# Altium footprint library 2019-10-20_20-01-06.PcbLib: 3 footprints
Each footprint in its own frame and in the unit in brackets; x right, y up, seen from the top. Pads: shape width x height; smd on the part's side, far side on the other; paste and mask are expansions set on the pad; w line width, h text height; cw(c..) or ccw(c..) is an arc to the next point about the centre after c.
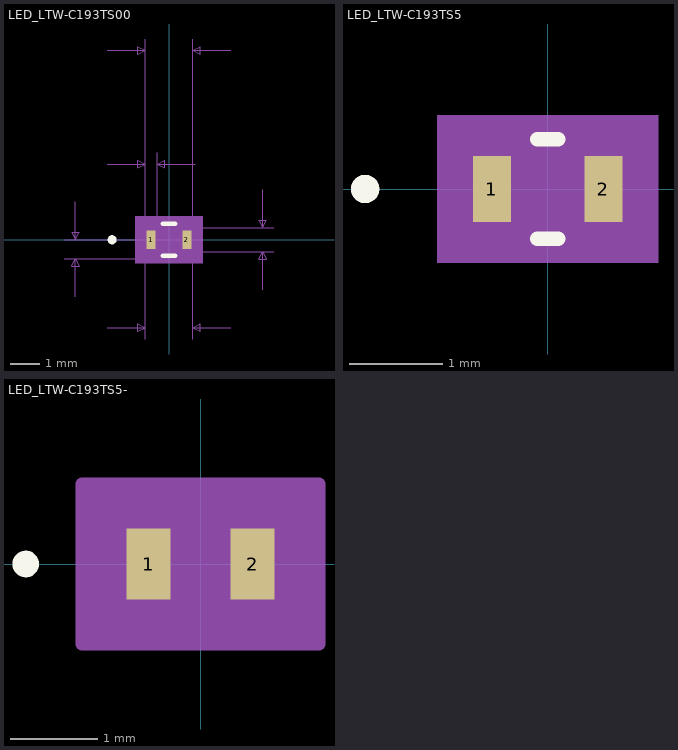
[diagram p0: the footprints below, top view; thin cyan lines are the x and y axes]

## LED_LTW-C193TS00 [mil]
pads (2):
  rect 12x24 smd paste+0 mask+0: 1(-23.5,0) 2(23.5,0)
Top Overlay:
  circle w6: c-75,0 r3
  lines w6: -7.98,-21 7.98,-21 ; -7.98,21 7.98,21
Mechanical 5:
  region: 44.5,-31 -44.5,-31 -44.5,31 44.5,31
Mechanical 7:
  lines w1: -138.5,-25 -23.5,-25 ; -138.5,0 -23.5,0 ; -123.5,-75 -123.5,-25 ; -123.5,50 -123.5,0 ; -81.5,-116 -31.5,-116 ; -81.5,100 -31.5,100 ; -81.5,250 -31.5,250 ; -31.5,-131 -31.5,-16 ; -31.5,115 -31.5,0 -31.5,265 ; -15.5,0 -15.5,115 ; 31.5,-131 31.5,-16 138.5,-16 ; 31.5,0 31.5,265 ; 31.5,16 138.5,16 ; 34.5,100 -15.5,100 ; 81.5,-116 31.5,-116 ; 81.5,250 31.5,250 ; 123.5,-66 123.5,-16 ; 123.5,66 123.5,16 ; -123.5,-25 -118.5,-35 -128.5,-35 -123.5,-25 ; -123.5,0 -118.5,10 -128.5,10 -123.5,0 ; -31.5,-116 -41.5,-121 -41.5,-111 -31.5,-116 ; -31.5,100 -41.5,95 -41.5,105 -31.5,100 ; -31.5,250 -41.5,245 -41.5,255 -31.5,250 ; -15.5,100 -5.5,95 -5.5,105 -15.5,100 ; 31.5,-116 41.5,-121 41.5,-111 31.5,-116 ; 31.5,250 41.5,245 41.5,255 31.5,250 ; 123.5,-16 128.5,-26 118.5,-26 123.5,-16 ; 123.5,16 128.5,26 118.5,26 123.5,16
  text "0.063in/1.6mm" at -81.25,-161 h25
  text "0.032in/0.813mm" at 143.5,-12.5 h25
  text "0.025in/0.635mm" at -331,-25 h25
  text "0.016in/0.406mm" at -117.25,120 h25
  text "0.063in/1.6mm" at -81.25,270 h25
  text "Alt 2 Padstyle: OX90Y60D30P" at -337.5,-626 h50
  text "Alt 1 Padstyle: OX60Y90D30P" at -337.5,-566 h50
  text "Default Padstyle: RX12Y24D0TSM2" at -387.5,-386 h50
  text "Pin 1 Padstyle: RX12Y24D0T" at -325,-326 h50
Mechanical 13:
  circle w0: c0,0 r3
  lines w1: -31.5,-16 -31.5,16 31.5,16 31.5,-16 -31.5,-16
Mechanical 15:
  region: -35.5,-16 -35.5,16 -35.5,20 35.5,20 35.5,16 35.5,-16 35.5,-20 -35.5,-20
  lines w6: -35.5,-20 35.5,-20 35.5,-16 35.5,16 35.5,20 -35.5,20 -35.5,16 -35.5,-16 -35.5,-20
3D body: height 10, standoff 0, extent 0,0 10,10

## LED_LTW-C193TS5 [mil]
pads (2):
  rect 16x28 smd paste+0 mask+0: 1(-23.5,0) 2(23.5,0)
Top Overlay:
  circle w6: c-77,0 r3
  lines w6: -4.43,-21 4.43,-21 ; -4.43,21 4.43,21
Mechanical 5:
  region: 46.5,-31 -46.5,-31 -46.5,31 46.5,31
Mechanical 13:
  circle w0: c0,0 r3
  lines w1: -31.5,-16 -31.5,16 31.5,16 31.5,-16 -31.5,-16
Mechanical 15:
  region: -41.5,-24 -41.5,24 -41.5,26 41.5,26 41.5,24 41.5,-24 41.5,-26 -41.5,-26
  lines w6: -41.5,-26 41.5,-26 41.5,-24 41.5,24 41.5,26 -41.5,26 -41.5,24 -41.5,-24 -41.5,-26
3D body "LED_LTW-C193TS5-M.step": height 22.09, standoff 0, extent -31.49,-15.98 31.5,15.99

## LED_LTW-C193TS5- [mil]
pads (2):
  rect 20x32 smd paste+0 mask+0: 1(-23.5,0) 2(23.5,0)
Top Overlay:
  circle w6: c-79,0 r3
Mechanical 5:
  region: 48.5,-31 -48.5,-31 -48.5,31 48.5,31
Mechanical 13:
  circle w0: c0,0 r3
  lines w1: -31.5,-16 -31.5,16 31.5,16 31.5,-16 -31.5,-16
Mechanical 15:
  region: -51.5,-36 -53.5,-36 -53.5,36 -51.5,36 51.5,36 53.5,36 53.5,-36 51.5,-36
  lines w6: -53.5,-36 -51.5,-36 51.5,-36 53.5,-36 53.5,36 51.5,36 -51.5,36 -53.5,36 -53.5,-36
3D body: height 10, standoff 0, extent 0,0 10,10
3D body "LED_LTW-C193TS5.step": height 22.09, standoff 0, extent -31.49,-15.98 31.5,15.99